# Altium integrated library 43650-0600.IntLib: 1 symbol
Pins are listed as number, name and electrical type; pins without a type are passive.

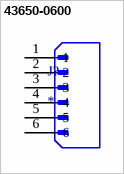
[diagram p0: symbol 43650-0600]

## 43650-0600
designator J?
3.00mm Pitch Micro-Fit 3.0â„¢ Header, Surface Mount Compatible, Single Row, Right Angle, with Snap-in Plastic Peg PCB Lock, 6 Circuits, Tin (Sn) Plating, Glow Wire Compatible; MF: Molex; MP: 43650-0600; Package: None; SnapEDA_Link: https://www.snapeda.com/parts/43650-0600/Molex/view-part/?ref=snap; Purchase-URL: https://pricing.snapeda.com/search/part/43650-0600/?ref=eda; Check_prices: https://www.snapeda.com/parts/43650-0600/Molex/view-part/?ref=eda; Price: None; Availability: In Stock; Value: *
footprint MOLEX_43650-0600
pins: 1, 2, 3, 4, 5, 6